# Altium integrated library 10M40DCF484.IntLib: 1 symbol
Pins are listed as number, name and electrical type; pins without a type are passive.

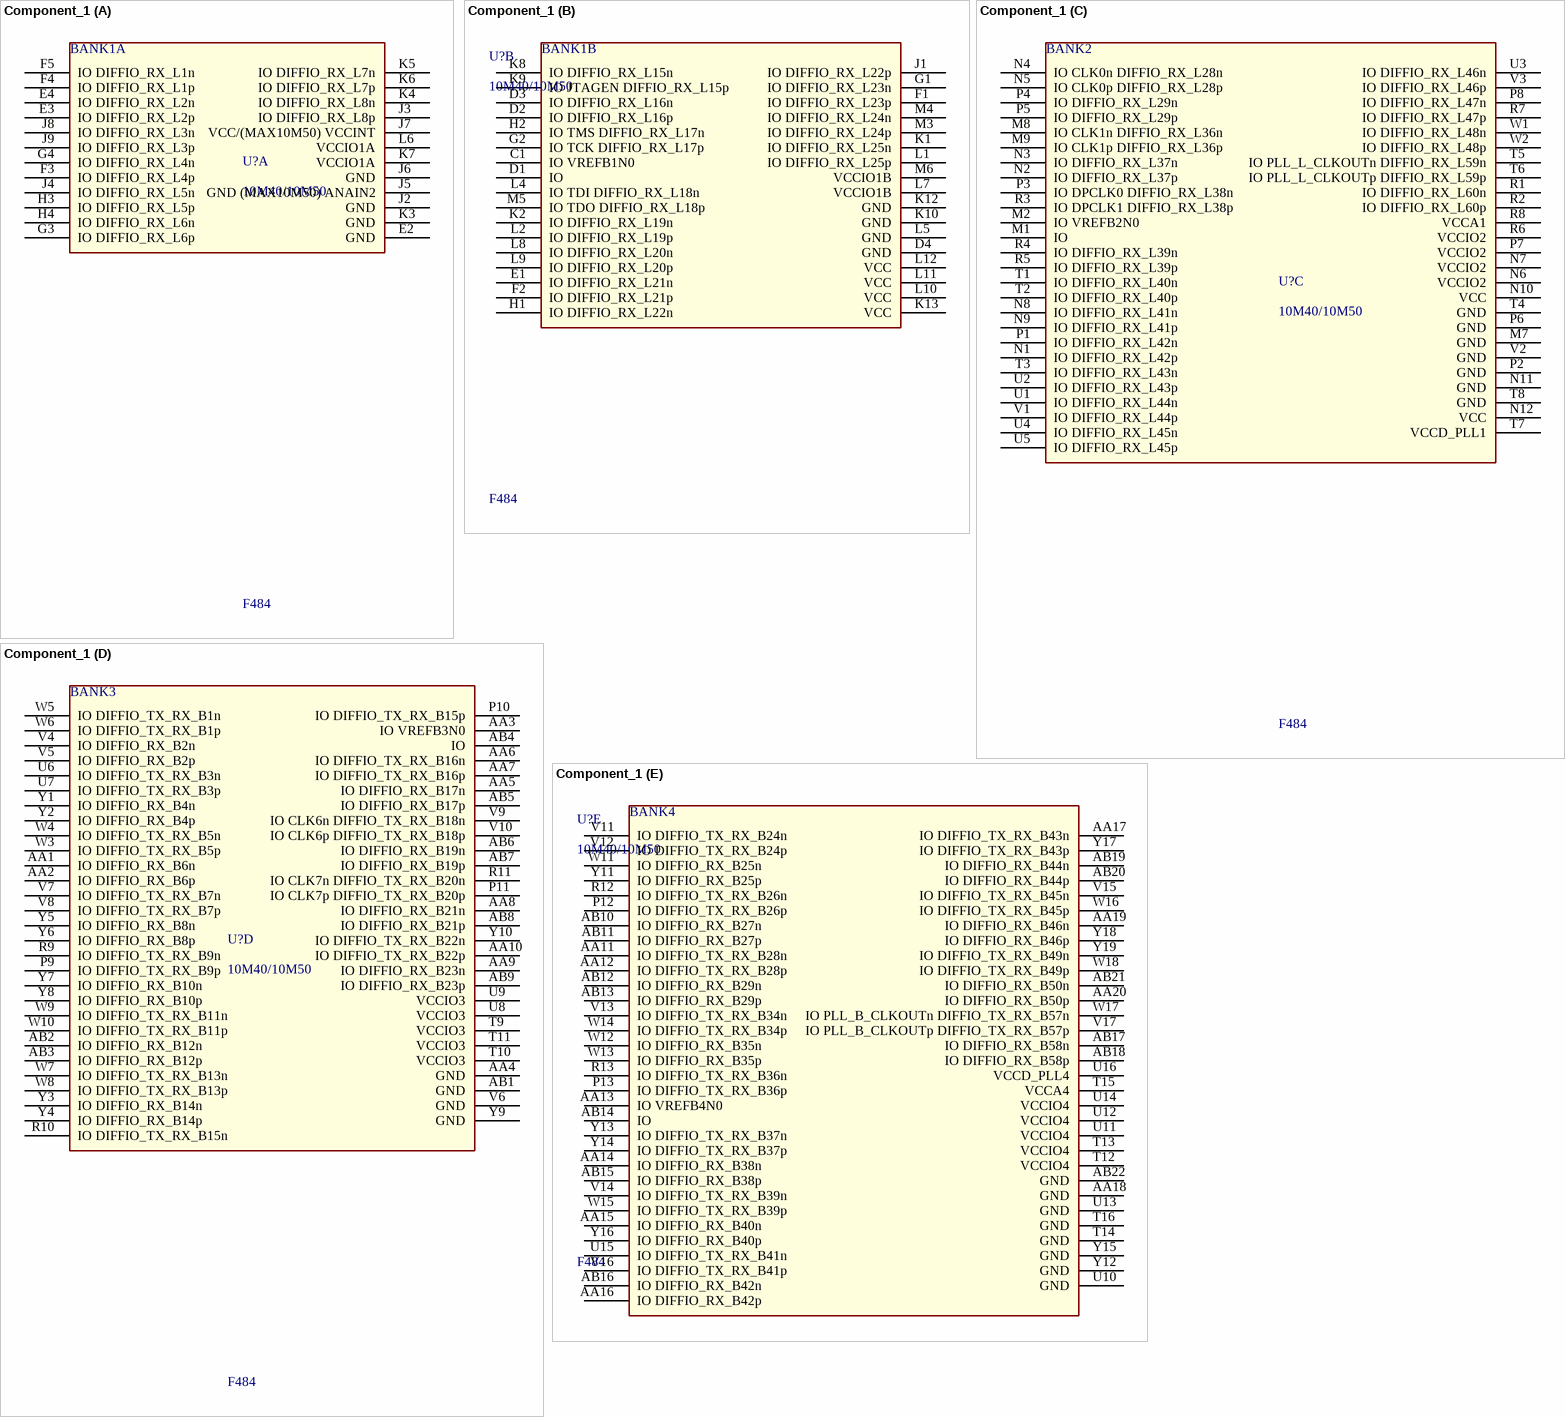
[diagram p0: symbol Component_1]

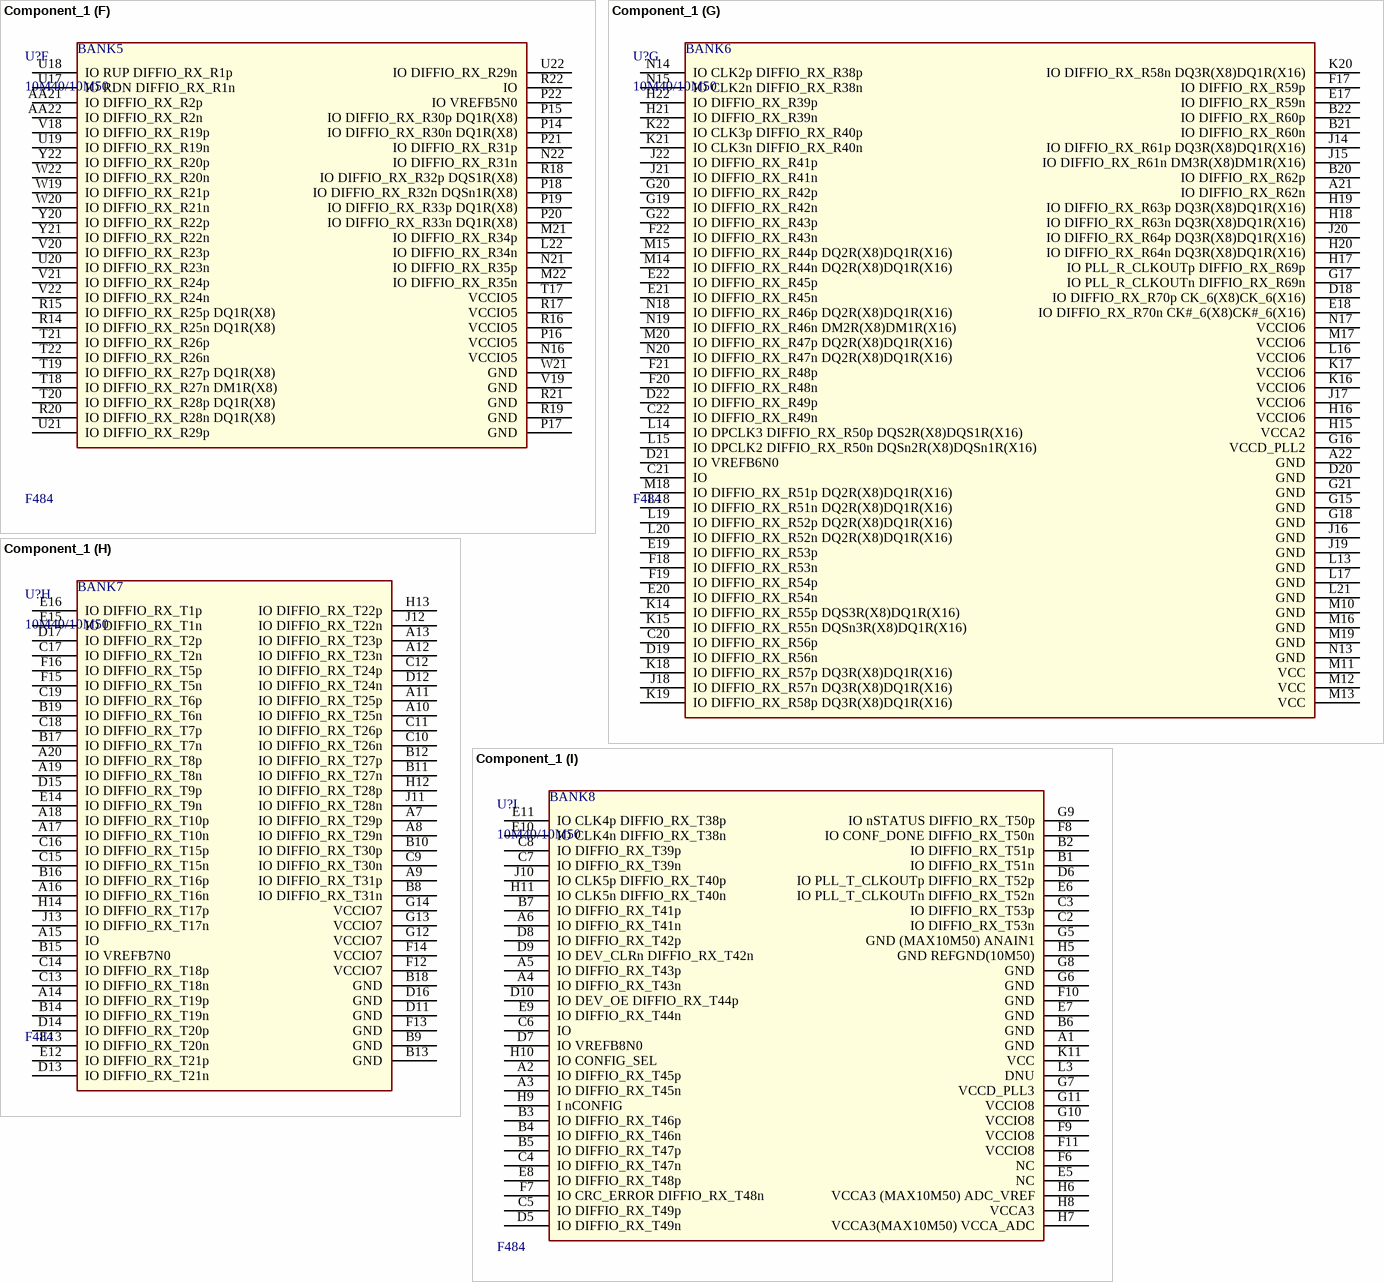
[diagram p1: symbol Component_1]

## Component_1
designator U?, comment 10M40/10M50  Package Type: F484
footprint *BGA484N100P22X22_2300X2300X350
part A pins: E2 GND, E3 IO DIFFIO_RX_L2p "Low_Speed", E4 IO DIFFIO_RX_L2n "Low_Speed", F3 IO DIFFIO_RX_L4p "Low_Speed", F4 IO DIFFIO_RX_L1p "Low_Speed", F5 IO DIFFIO_RX_L1n "Low_Speed", G3 IO DIFFIO_RX_L6p "Low_Speed", G4 IO DIFFIO_RX_L4n "Low_Speed", H3 IO DIFFIO_RX_L5p "Low_Speed", H4 IO DIFFIO_RX_L6n "Low_Speed", J2 GND, J3 IO DIFFIO_RX_L8p "Low_Speed", J4 IO DIFFIO_RX_L5n "Low_Speed", J5 GND (MAX10M50) ANAIN2, J6 GND, J7 VCC/(MAX10M50) VCCINT, J8 IO DIFFIO_RX_L3n "Low_Speed", J9 IO DIFFIO_RX_L3p "Low_Speed", K3 GND, K4 IO DIFFIO_RX_L8n "Low_Speed", K5 IO DIFFIO_RX_L7n "Low_Speed", K6 IO DIFFIO_RX_L7p "Low_Speed", K7 VCCIO1A, L6 VCCIO1A
part B pins: C1 IO VREFB1N0, D1 IO, D2 IO DIFFIO_RX_L16p, D3 IO DIFFIO_RX_L16n, D4 GND, E1 IO DIFFIO_RX_L21n, F1 IO DIFFIO_RX_L23p, F2 IO DIFFIO_RX_L21p, G1 IO DIFFIO_RX_L23n, G2 IO TCK DIFFIO_RX_L17p, H1 IO DIFFIO_RX_L22n, H2 IO TMS DIFFIO_RX_L17n, J1 IO DIFFIO_RX_L22p, K1 IO DIFFIO_RX_L25n, K2 IO DIFFIO_RX_L19n, K8 IO DIFFIO_RX_L15n, K9 IO JTAGEN DIFFIO_RX_L15p, K10 GND, K12 GND, K13 VCC, L1 IO DIFFIO_RX_L25p, L2 IO DIFFIO_RX_L19p, L4 IO TDI DIFFIO_RX_L18n, L5 GND, L7 VCCIO1B, L8 IO DIFFIO_RX_L20n, L9 IO DIFFIO_RX_L20p, L10 VCC, L11 VCC, L12 VCC, M3 IO DIFFIO_RX_L24p, M4 IO DIFFIO_RX_L24n, M5 IO TDO DIFFIO_RX_L18p, M6 VCCIO1B
part C pins: M1 IO, M2 IO VREFB2N0, M7 GND, M8 IO CLK1n DIFFIO_RX_L36n, M9 IO CLK1p DIFFIO_RX_L36p, N1 IO DIFFIO_RX_L42p, N2 IO DIFFIO_RX_L37p, N3 IO DIFFIO_RX_L37n, N4 IO CLK0n DIFFIO_RX_L28n, N5 IO CLK0p DIFFIO_RX_L28p, N6 VCCIO2, N7 VCCIO2, N8 IO DIFFIO_RX_L41n, N9 IO DIFFIO_RX_L41p, N10 VCC, N11 GND, N12 VCC, P1 IO DIFFIO_RX_L42n, P2 GND, P3 IO DPCLK0 DIFFIO_RX_L38n, P4 IO DIFFIO_RX_L29n, P5 IO DIFFIO_RX_L29p, P6 GND, P7 VCCIO2, P8 IO DIFFIO_RX_L47n, R1 IO DIFFIO_RX_L60n, R2 IO DIFFIO_RX_L60p, R3 IO DPCLK1 DIFFIO_RX_L38p, R4 IO DIFFIO_RX_L39n, R5 IO DIFFIO_RX_L39p, R6 VCCIO2, R7 IO DIFFIO_RX_L47p, R8 VCCA1, T1 IO DIFFIO_RX_L40n, T2 IO DIFFIO_RX_L40p, T3 IO DIFFIO_RX_L43n, T4 GND, T5 IO PLL_L_CLKOUTn DIFFIO_RX_L59n, T6 IO PLL_L_CLKOUTp DIFFIO_RX_L59p, T7 VCCD_PLL1, T8 GND, U1 IO DIFFIO_RX_L44n, U2 IO DIFFIO_RX_L43p, U3 IO DIFFIO_RX_L46n, U4 IO DIFFIO_RX_L45n, U5 IO DIFFIO_RX_L45p, V1 IO DIFFIO_RX_L44p, V2 GND, V3 IO DIFFIO_RX_L46p, W1 IO DIFFIO_RX_L48n, W2 IO DIFFIO_RX_L48p
part D pins: AA1 IO DIFFIO_RX_B6n, AA2 IO DIFFIO_RX_B6p, AA3 IO VREFB3N0, AA4 GND, AA5 IO DIFFIO_RX_B17n, AA6 IO DIFFIO_TX_RX_B16n, AA7 IO DIFFIO_TX_RX_B16p, AA8 IO DIFFIO_RX_B21n, AA9 IO DIFFIO_RX_B23n, AA10 IO DIFFIO_TX_RX_B22p, AB1 GND, AB2 IO DIFFIO_RX_B12n, AB3 IO DIFFIO_RX_B12p, AB4 IO, AB5 IO DIFFIO_RX_B17p, AB6 IO DIFFIO_RX_B19n, AB7 IO DIFFIO_RX_B19p, AB8 IO DIFFIO_RX_B21p, AB9 IO DIFFIO_RX_B23p, P9 IO DIFFIO_TX_RX_B9p, P10 IO DIFFIO_TX_RX_B15p, P11 IO CLK7p DIFFIO_TX_RX_B20p, R9 IO DIFFIO_TX_RX_B9n, R10 IO DIFFIO_TX_RX_B15n, R11 IO CLK7n DIFFIO_TX_RX_B20n, T9 VCCIO3, T10 VCCIO3, T11 VCCIO3, U6 IO DIFFIO_TX_RX_B3n, U7 IO DIFFIO_TX_RX_B3p, U8 VCCIO3, U9 VCCIO3, V4 IO DIFFIO_RX_B2n, V5 IO DIFFIO_RX_B2p, V6 GND, V7 IO DIFFIO_TX_RX_B7n, V8 IO DIFFIO_TX_RX_B7p, V9 IO CLK6n DIFFIO_TX_RX_B18n, V10 IO CLK6p DIFFIO_TX_RX_B18p, W3 IO DIFFIO_TX_RX_B5p, W4 IO DIFFIO_TX_RX_B5n, W5 IO DIFFIO_TX_RX_B1n, W6 IO DIFFIO_TX_RX_B1p, W7 IO DIFFIO_TX_RX_B13n, W8 IO DIFFIO_TX_RX_B13p, W9 IO DIFFIO_TX_RX_B11n, W10 IO DIFFIO_TX_RX_B11p, Y1 IO DIFFIO_RX_B4n, Y2 IO DIFFIO_RX_B4p, Y3 IO DIFFIO_RX_B14n, Y4 IO DIFFIO_RX_B14p, Y5 IO DIFFIO_RX_B8n, Y6 IO DIFFIO_RX_B8p, Y7 IO DIFFIO_RX_B10n, Y8 IO DIFFIO_RX_B10p, Y9 GND, Y10 IO DIFFIO_TX_RX_B22n
part E pins: AA11 IO DIFFIO_TX_RX_B28n, AA12 IO DIFFIO_TX_RX_B28p, AA13 IO VREFB4N0, AA14 IO DIFFIO_RX_B38n, AA15 IO DIFFIO_RX_B40n, AA16 IO DIFFIO_RX_B42p, AA17 IO DIFFIO_TX_RX_B43n, AA18 GND, AA19 IO DIFFIO_RX_B46n, AA20 IO DIFFIO_RX_B50p, AB10 IO DIFFIO_RX_B27n, AB11 IO DIFFIO_RX_B27p, AB12 IO DIFFIO_RX_B29n, AB13 IO DIFFIO_RX_B29p, AB14 IO, AB15 IO DIFFIO_RX_B38p, AB16 IO DIFFIO_RX_B42n, AB17 IO DIFFIO_RX_B58n, AB18 IO DIFFIO_RX_B58p, AB19 IO DIFFIO_RX_B44n, AB20 IO DIFFIO_RX_B44p, AB21 IO DIFFIO_RX_B50n, AB22 GND, P12 IO DIFFIO_TX_RX_B26p, P13 IO DIFFIO_TX_RX_B36p, R12 IO DIFFIO_TX_RX_B26n, R13 IO DIFFIO_TX_RX_B36n, T12 VCCIO4, T13 VCCIO4, T14 GND, T15 VCCA4, T16 GND, U10 GND, U11 VCCIO4, U12 VCCIO4, U13 GND, U14 VCCIO4, U15 IO DIFFIO_TX_RX_B41n, U16 VCCD_PLL4, V11 IO DIFFIO_TX_RX_B24n, V12 IO DIFFIO_TX_RX_B24p, V13 IO DIFFIO_TX_RX_B34n, V14 IO DIFFIO_TX_RX_B39n, V15 IO DIFFIO_TX_RX_B45n, V16 IO DIFFIO_TX_RX_B41p, V17 IO PLL_B_CLKOUTp DIFFIO_TX_RX_B57p, W11 IO DIFFIO_RX_B25n, W12 IO DIFFIO_RX_B35n, W13 IO DIFFIO_RX_B35p, W14 IO DIFFIO_TX_RX_B34p, W15 IO DIFFIO_TX_RX_B39p, W16 IO DIFFIO_TX_RX_B45p, W17 IO PLL_B_CLKOUTn DIFFIO_TX_RX_B57n, W18 IO DIFFIO_TX_RX_B49p, Y11 IO DIFFIO_RX_B25p, Y12 GND, Y13 IO DIFFIO_TX_RX_B37n, Y14 IO DIFFIO_TX_RX_B37p, Y15 GND, Y16 IO DIFFIO_RX_B40p, Y17 IO DIFFIO_TX_RX_B43p, Y18 IO DIFFIO_RX_B46p, Y19 IO DIFFIO_TX_RX_B49n
part F pins: AA21 IO DIFFIO_RX_R2p, AA22 IO DIFFIO_RX_R2n, L22 IO DIFFIO_RX_R34n, M21 IO DIFFIO_RX_R34p, M22 IO DIFFIO_RX_R35n, N16 VCCIO5, N21 IO DIFFIO_RX_R35p, N22 IO DIFFIO_RX_R31n, P14 IO DIFFIO_RX_R30n DQ1R(X8), P15 IO DIFFIO_RX_R30p DQ1R(X8), P16 VCCIO5, P17 GND, P18 IO DIFFIO_RX_R32n DQSn1R(X8), P19 IO DIFFIO_RX_R33p DQ1R(X8), P20 IO DIFFIO_RX_R33n DQ1R(X8), P21 IO DIFFIO_RX_R31p, P22 IO VREFB5N0, R14 IO DIFFIO_RX_R25n DQ1R(X8), R15 IO DIFFIO_RX_R25p DQ1R(X8), R16 VCCIO5, R17 VCCIO5, R18 IO DIFFIO_RX_R32p DQS1R(X8), R19 GND, R20 IO DIFFIO_RX_R28n DQ1R(X8), R21 GND, R22 IO, T17 VCCIO5, T18 IO DIFFIO_RX_R27n DM1R(X8), T19 IO DIFFIO_RX_R27p DQ1R(X8), T20 IO DIFFIO_RX_R28p DQ1R(X8), T21 IO DIFFIO_RX_R26p, T22 IO DIFFIO_RX_R26n, U17 IO RDN DIFFIO_RX_R1n, U18 IO RUP DIFFIO_RX_R1p, U19 IO DIFFIO_RX_R19n, U20 IO DIFFIO_RX_R23n, U21 IO DIFFIO_RX_R29p, U22 IO DIFFIO_RX_R29n, V18 IO DIFFIO_RX_R19p, V19 GND, V20 IO DIFFIO_RX_R23p, V21 IO DIFFIO_RX_R24p, V22 IO DIFFIO_RX_R24n, W19 IO DIFFIO_RX_R21p, W20 IO DIFFIO_RX_R21n, W21 GND, W22 IO DIFFIO_RX_R20n, Y20 IO DIFFIO_RX_R22p, Y21 IO DIFFIO_RX_R22n, Y22 IO DIFFIO_RX_R20p
part G pins: A21 IO DIFFIO_RX_R62n, A22 GND, B20 IO DIFFIO_RX_R62p, B21 IO DIFFIO_RX_R60n, B22 IO DIFFIO_RX_R60p, C20 IO DIFFIO_RX_R56p, C21 IO, C22 IO DIFFIO_RX_R49n, D18 IO DIFFIO_RX_R70p CK_6(X8)CK_6(X16), D19 IO DIFFIO_RX_R56n, D20 GND, D21 IO VREFB6N0, D22 IO DIFFIO_RX_R49p, E17 IO DIFFIO_RX_R59n, E18 IO DIFFIO_RX_R70n CK#_6(X8)CK#_6(X16), E19 IO DIFFIO_RX_R53p, E20 IO DIFFIO_RX_R54n, E21 IO DIFFIO_RX_R45n, E22 IO DIFFIO_RX_R45p, F17 IO DIFFIO_RX_R59p, F18 IO DIFFIO_RX_R53n, F19 IO DIFFIO_RX_R54p, F20 IO DIFFIO_RX_R48n, F21 IO DIFFIO_RX_R48p, F22 IO DIFFIO_RX_R43n, G15 GND, G16 VCCD_PLL2, G17 IO PLL_R_CLKOUTn DIFFIO_RX_R69n, G18 GND, G19 IO DIFFIO_RX_R42n, G20 IO DIFFIO_RX_R42p, G21 GND, G22 IO DIFFIO_RX_R43p, H15 VCCA2, H16 VCCIO6, H17 IO PLL_R_CLKOUTp DIFFIO_RX_R69p, H18 IO DIFFIO_RX_R63n DQ3R(X8)DQ1R(X16), H19 IO DIFFIO_RX_R63p DQ3R(X8)DQ1R(X16), H20 IO DIFFIO_RX_R64n DQ3R(X8)DQ1R(X16), H21 IO DIFFIO_RX_R39n, H22 IO DIFFIO_RX_R39p, J14 IO DIFFIO_RX_R61p DQ3R(X8)DQ1R(X16), J15 IO DIFFIO_RX_R61n DM3R(X8)DM1R(X16), J16 GND, J17 VCCIO6, J18 IO DIFFIO_RX_R57n DQ3R(X8)DQ1R(X16), J19 GND, J20 IO DIFFIO_RX_R64p DQ3R(X8)DQ1R(X16), J21 IO DIFFIO_RX_R41n, J22 IO DIFFIO_RX_R41p, K14 IO DIFFIO_RX_R55p DQS3R(X8)DQ1R(X16), K15 IO DIFFIO_RX_R55n DQSn3R(X8)DQ1R(X16), K16 VCCIO6, K17 VCCIO6, K18 IO DIFFIO_RX_R57p DQ3R(X8)DQ1R(X16), K19 IO DIFFIO_RX_R58p DQ3R(X8)DQ1R(X16), K20 IO DIFFIO_RX_R58n DQ3R(X8)DQ1R(X16), K21 IO CLK3n DIFFIO_RX_R40n, K22 IO CLK3p DIFFIO_RX_R40p, L13 GND, L14 IO DPCLK3 DIFFIO_RX_R50p DQS2R(X8)DQS1R(X16), L15 IO DPCLK2 DIFFIO_RX_R50n DQSn2R(X8)DQSn1R(X16), L16 VCCIO6, L17 GND, L18 IO DIFFIO_RX_R51n DQ2R(X8)DQ1R(X16), L19 IO DIFFIO_RX_R52p DQ2R(X8)DQ1R(X16), L20 IO DIFFIO_RX_R52n DQ2R(X8)DQ1R(X16), L21 GND, M10 GND, M11 VCC, M12 VCC, M13 VCC, M14 IO DIFFIO_RX_R44n DQ2R(X8)DQ1R(X16), M15 IO DIFFIO_RX_R44p DQ2R(X8)DQ1R(X16), M16 GND, M17 VCCIO6, M18 IO DIFFIO_RX_R51p DQ2R(X8)DQ1R(X16), M19 GND, M20 IO DIFFIO_RX_R47p DQ2R(X8)DQ1R(X16), N13 GND, N14 IO CLK2p DIFFIO_RX_R38p, N15 IO CLK2n DIFFIO_RX_R38n, N17 VCCIO6, N18 IO DIFFIO_RX_R46p DQ2R(X8)DQ1R(X16), N19 IO DIFFIO_RX_R46n DM2R(X8)DM1R(X16), N20 IO DIFFIO_RX_R47n DQ2R(X8)DQ1R(X16)
part H pins: A7 IO DIFFIO_RX_T29p, A8 IO DIFFIO_RX_T29n, A9 IO DIFFIO_RX_T31p, A10 IO DIFFIO_RX_T25n, A11 IO DIFFIO_RX_T25p, A12 IO DIFFIO_RX_T23n, A13 IO DIFFIO_RX_T23p, A14 IO DIFFIO_RX_T19p, A15 IO, A16 IO DIFFIO_RX_T16n, A17 IO DIFFIO_RX_T10n, A18 IO DIFFIO_RX_T10p, A19 IO DIFFIO_RX_T8n, A20 IO DIFFIO_RX_T8p, B8 IO DIFFIO_RX_T31n, B9 GND, B10 IO DIFFIO_RX_T30p, B11 IO DIFFIO_RX_T27n, B12 IO DIFFIO_RX_T27p, B13 GND, B14 IO DIFFIO_RX_T19n, B15 IO VREFB7N0, B16 IO DIFFIO_RX_T16p, B17 IO DIFFIO_RX_T7n, B18 GND, B19 IO DIFFIO_RX_T6n, C9 IO DIFFIO_RX_T30n, C10 IO DIFFIO_RX_T26n, C11 IO DIFFIO_RX_T26p, C12 IO DIFFIO_RX_T24p, C13 IO DIFFIO_RX_T18n, C14 IO DIFFIO_RX_T18p, C15 IO DIFFIO_RX_T15n, C16 IO DIFFIO_RX_T15p, C17 IO DIFFIO_RX_T2n, C18 IO DIFFIO_RX_T7p, C19 IO DIFFIO_RX_T6p, D11 GND, D12 IO DIFFIO_RX_T24n, D13 IO DIFFIO_RX_T21n, D14 IO DIFFIO_RX_T20p, D15 IO DIFFIO_RX_T9p, D16 GND, D17 IO DIFFIO_RX_T2p, E12 IO DIFFIO_RX_T21p, E13 IO DIFFIO_RX_T20n, E14 IO DIFFIO_RX_T9n, E15 IO DIFFIO_RX_T1n, E16 IO DIFFIO_RX_T1p, F12 VCCIO7, F13 GND, F14 VCCIO7, F15 IO DIFFIO_RX_T5n, F16 IO DIFFIO_RX_T5p, G12 VCCIO7, G13 VCCIO7, G14 VCCIO7, H12 IO DIFFIO_RX_T28p, H13 IO DIFFIO_RX_T22p, H14 IO DIFFIO_RX_T17p, J11 IO DIFFIO_RX_T28n, J12 IO DIFFIO_RX_T22n, J13 IO DIFFIO_RX_T17n
part I pins: A1 GND, A2 IO DIFFIO_RX_T45p, A3 IO DIFFIO_RX_T45n, A4 IO DIFFIO_RX_T43n, A5 IO DIFFIO_RX_T43p, A6 IO DIFFIO_RX_T41n, B1 IO DIFFIO_RX_T51n, B2 IO DIFFIO_RX_T51p, B3 IO DIFFIO_RX_T46p, B4 IO DIFFIO_RX_T46n, B5 IO DIFFIO_RX_T47p, B6 GND, B7 IO DIFFIO_RX_T41p, C2 IO DIFFIO_RX_T53n, C3 IO DIFFIO_RX_T53p, C4 IO DIFFIO_RX_T47n, C5 IO DIFFIO_RX_T49p, C6 IO, C7 IO DIFFIO_RX_T39n, C8 IO DIFFIO_RX_T39p, D5 IO DIFFIO_RX_T49n, D6 IO PLL_T_CLKOUTp DIFFIO_RX_T52p, D7 IO VREFB8N0, D8 IO DIFFIO_RX_T42p, D9 IO DEV_CLRn DIFFIO_RX_T42n, D10 IO DEV_OE DIFFIO_RX_T44p, E5 NC, E6 IO PLL_T_CLKOUTn DIFFIO_RX_T52n, E7 GND, E8 IO DIFFIO_RX_T48p, E9 IO DIFFIO_RX_T44n, E10 IO CLK4n DIFFIO_RX_T38n, E11 IO CLK4p DIFFIO_RX_T38p, F6 NC, F7 IO CRC_ERROR DIFFIO_RX_T48n, F8 IO CONF_DONE DIFFIO_RX_T50n, F9 VCCIO8, F10 GND, F11 VCCIO8, G5 GND (MAX10M50) ANAIN1, G6 GND, G7 VCCD_PLL3, G8 GND, G9 IO nSTATUS DIFFIO_RX_T50p, G10 VCCIO8, G11 VCCIO8, H5 GND REFGND(10M50), H6 VCCA3 (MAX10M50) ADC_VREF, H7 VCCA3(MAX10M50) VCCA_ADC, H8 VCCA3, H9 I nCONFIG, H10 IO CONFIG_SEL, H11 IO CLK5n DIFFIO_RX_T40n, J10 IO CLK5p DIFFIO_RX_T40p, K11 VCC, L3 DNU
part A text: BANK1A
part B text: BANK1B
part C text: BANK2
part D text: BANK3
part E text: BANK4
part F text: BANK5
part G text: BANK6
part H text: BANK7
part I text: BANK8